# EAGLE library part W25Q16JVUXIQ (library ic)
W25Q16JV - NOR Flash Technical Specifications: VCC: 2.7-3.6V Operating Temperature: -40°C to 85°C Mouser: 454-W25Q16JVUXIQTR
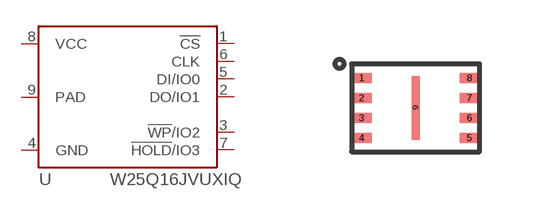
[diagram p16: symbol with the pads of USON8-2X3MM; footprint USON8-2X3MM]

Designator prefix U

## W25Q16JVUXIQ  [USON8-2X3MM]
1  !CS  in
2  DO/IO1
3  !WP!/IO2
4  GND
5  DI/IO0
6  CLK  in
7  !HOLD!/IO3
8  VCC
9  PAD

## Footprint USON8-2X3MM (pad centres in mm)
smd 0.5 x 0.25: 1 -1.35,0.75; 2 -1.35,0.25; 3 -1.35,-0.25; 4 -1.35,-0.75; 5 1.35,-0.75; 6 1.35,-0.25; 7 1.35,0.25; 8 1.35,0.75
smd 0.2 x 1.6: 9 0,0